# EAGLE library part PIC18F25K80 (library CAN-BT)
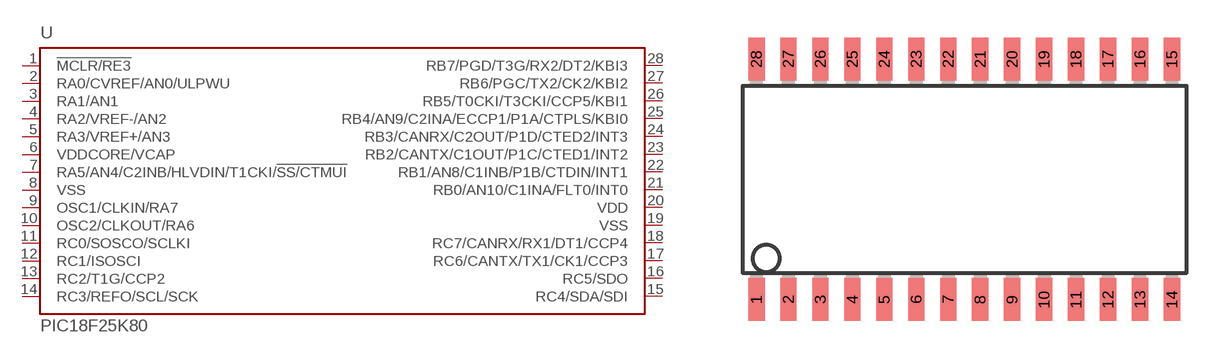
[diagram p0: symbol with the pads of SO28W; footprint SO28W]

Designator prefix -

## PIC18F25K80  [SO28W]
1  !MCLR/RE3  in
2  RA0/CVREF/AN0/ULPWU
3  RA1/AN1
4  RA2/VREF-/AN2
5  RA3/VREF+/AN3
6  VDDCORE/VCAP
7  RA5/AN4/C2INB/HLVDIN/T1CKI/!SS/CTMUI
8  VSS  pwr
9  OSC1/CLKIN/RA7  in
10  OSC2/CLKOUT/RA6  out
11  RC0/SOSCO/SCLKI
12  RC1/ISOSCI
13  RC2/T1G/CCP2
14  RC3/REFO/SCL/SCK
15  RC4/SDA/SDI
16  RC5/SDO
17  RC6/CANTX/TX1/CK1/CCP3
18  RC7/CANRX/RX1/DT1/CCP4
19  VSS  pwr
20  VDD  pwr
21  RB0/AN10/C1INA/FLT0/INT0
22  RB1/AN8/C1INB/P1B/CTDIN/INT1
23  RB2/CANTX/C1OUT/P1C/CTED1/INT2
24  RB3/CANRX/C2OUT/P1D/CTED2/INT3
25  RB4/AN9/C2INA/ECCP1/P1A/CTPLS/KBI0
26  RB5/T0CKI/T3CKI/CCP5/KBI1
27  RB6/PGC/TX2/CK2/KBI2
28  RB7/PGD/T3G/RX2/DT2/KBI3

## Footprint SO28W (pad centres in mm)
28-Lead Plastic Small Outline (SO) Wide, 300 mil Body (SOIC) Source: http://ww1.microchip.com/downloads/en/devicedoc/39632c.pdf
smd 0.65 x 1.7: 1 -7.62,-4.78; 2 -6.35,-4.78; 3 -5.08,-4.78; 4 -3.81,-4.78; 5 -2.54,-4.78; 6 -1.27,-4.78; 7 0,-4.78; 8 1.27,-4.78; 9 2.54,-4.78; 10 3.81,-4.78; 11 5.08,-4.78; 12 6.35,-4.78; 13 7.62,-4.78; 14 8.89,-4.78; 15 8.89,4.78; 16 7.62,4.78; 17 6.35,4.78; 18 5.08,4.78; 19 3.81,4.78; 20 2.54,4.78; 21 1.27,4.78; 22 0,4.78; 23 -1.27,4.78; 24 -2.54,4.78; 25 -3.81,4.78; 26 -5.08,4.78; 27 -6.35,4.78; 28 -7.62,4.78